# Altium schematic symbol library ISOLATOR_Test.SchLib: 2 symbols
Pins are listed as number, name and electrical type; pins without a type are passive.

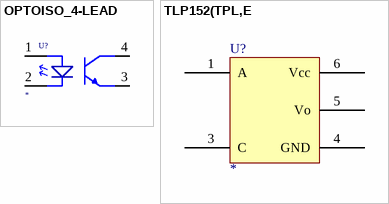
[diagram p0: symbols OPTOISO_4-LEAD to TLP152(TPL,E]

## OPTOISO_4-LEAD
designator U?
OPTOISO 4 LEAD; Manufacturer Part Number: *
pins: 1, 2, 3, 4

## TLP152(TPL,E
designator U?
IC-152 PHOTOCOUPLER GATE DRIVE SO6 TOSHIBA; Manufacturer Part Number: *
pins: 1 A, 3 C, 4 GND, 5 Vo, 6 Vcc